# EAGLE library part TXB104 (library ti_txb0104)
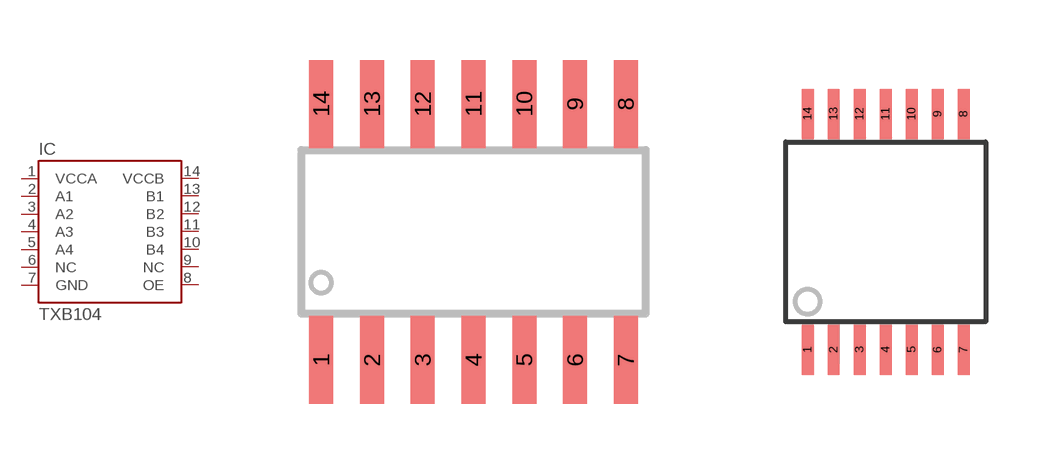
[diagram p0: symbol with the pads of SOIC(D)-14; footprints SOIC(D)-14, TSSOP(PW)-14]

Designator prefix IC

## TXB104D  [SOIC(D)-14]
1  VCCA  pwr
2  A1
3  A2
4  A3
5  A4
6  NC  nc
7  GND  pwr
8  OE  in
9  NC  nc
10  B4
11  B3
12  B2
13  B1
14  VCCB  pwr

## TXB104PWR  [TSSOP(PW)-14]
Pads as for SOIC(D)-14

## Footprint SOIC(D)-14 (pad centres in mm)
Small Outline Integrated Circuit wide
smd 0.6 x 2.2: 1 -3.81,-3.203; 2 -2.54,-3.203; 3 -1.27,-3.203; 4 0,-3.203; 5 1.27,-3.203; 6 2.54,-3.203; 7 3.81,-3.203; 8 3.81,3.203; 9 2.54,3.203; 10 1.27,3.203; 11 0,3.203; 12 -1.27,3.203; 13 -2.54,3.203; 14 -3.81,3.203

## Footprint TSSOP(PW)-14 (pad centres in mm)
Small Shrink Outline Package
smd 0.3 x 1.25: 1 -1.95,-2.95; 2 -1.3,-2.95; 3 -0.65,-2.95; 4 0,-2.95; 5 0.65,-2.95; 6 1.3,-2.95; 7 1.95,-2.95; 8 1.95,2.95; 9 1.3,2.95; 10 0.65,2.95; 11 0,2.95; 12 -0.65,2.95; 13 -1.3,2.95; 14 -1.95,2.95